# EAGLE library part TP4057 (library lio)
500mA linear li-ion battery charger tp4057 actual charge current to 500ma, dual-lamp indication, reverse battery protection. Alternative to MAX1551 or MAX1555 (not compatible!) Datasheet from TP micro: http://www.tpmicro.com/datasheet/TP4057Ver1.0_preview.pdf http://www.tp-asic.com/te_product_a/2009-05-20/33.chtml
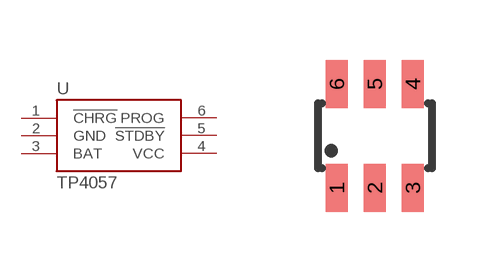
[diagram p0: symbol with the pads of SOT23-6; footprint SOT23-6]

Designator prefix -

## TP4057SOT-26-R  [SOT23-6]
1  !CHRG  oc
2  GND  pwr
3  BAT  sup
4  VCC  pwr
5  !STDBY  oc
6  PROG  in

## Footprint SOT23-6 (pad centres in mm)
smd 0.55 x 1.2: 1 -0.95,-1.3; 2 0,-1.3; 3 0.95,-1.3; 4 0.95,1.3; 5 0,1.3; 6 -0.95,1.3